# Altium schematic symbol library utilities.SchLib: 7 symbols
Pins are listed as number, name and electrical type; pins without a type are passive.

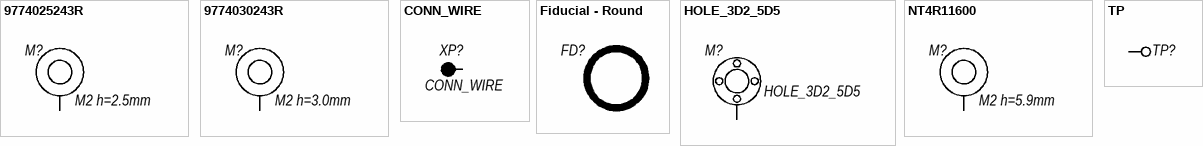
[diagram p0: symbols 9774025243R to TP]

## 9774025243R
designator M?, comment M2 h=2.5mm
9774025243R, Standoffs & Spacers WA-SMSI SMT Steel M2 h=2.5mm; Manufacturer: Wurth Elektronik; ValueBOM: 9774025243R   Wurth Elektronik                            (9774025243R); Value: M2 h=2.5mm; Part Number: 9774025243R; Package: M2 h=2.5mm; BOM1: 9774025243R; BOM2: 9774025243R
footprint 9774025243R (WA-SMSI SMT Steel Spacer with  internal Thread h=2.5 mm)
footprint 9774025243R 3D (WA-SMSI SMT Steel Spacer with  internal Thread h=2.5 mm)
pins: 1

## 9774030243R
designator M?, comment M2 h=3.0mm
9774030243R, Standoffs & Spacers WA-SMSI SMT Steel M2 h=3.0mm; Manufacturer: Wurth Elektronik; ValueBOM: 9774030243R   Wurth Elektronik                            (9774030243R); Value: M2 h=3.0mm; Part Number: 9774030243R; Package: M2 h=3.0mm; BOM1: 9774030243R; BOM2: 9774030243R
footprint 9774030243R (WA-SMSI SMT Steel Spacer with  internal Thread h=3.0 mm)
footprint 9774030243R 3D (WA-SMSI SMT Steel Spacer with  internal Thread h=3.0 mm)
pins: 1

## CONN_WIRE
designator XP?
Single-pin wire connector, 2.0mm hole, 10A; BOM1: 2.0mm hole CONN_WIRE; ValueBOM: CONN_WIRE                               (2.0mm hole CONN_WIRE); Value: CONN_WIRE; Part Number: CONN_WIRE; Package: 2.0mm hole; BOM2: 2.0mm hole CONN_WIRE
footprint WIRE_PAD_2.0_3.0 (Through-hole pad, 2.0mm hole, 3.0mm annular ring)
pins: 1

## Fiducial - Round
designator FD?  (value not drawn)  (no BOM)
Fiducial - Round 1.5mm Top-Bottom; Status: Unreleased; Category: Fiducial
footprint FIDUCIAL ROUND
footprint FIDUCIAL ROUND VER 1
footprint FIDUCIAL ROUND VER 2

## HOLE_3D2_5D5
designator M?
footprint M3
footprint HOLE_M3_3.2_5.5 (M3 normal pad 5.5mm copper ring)
pins: 1

## NT4R11600
designator M?, comment M2 h=5.9mm
Connector Standoff For PCI Express Mini Card SMT Steel M2 h=5.9mm; Part Number: NT4R11600; Manufacturer: Wurth Elektronik; ValueBOM: NT4R11600   Wurth Elektronik                            (NT4R11600); Value: M2 h=5.9mm; Package: M2 h=5.9mm; BOM1: NT4R11600; BOM2: NT4R11600
footprint NT4R1600 (NT4R1600 - Connector Standoff For PCI Express Mini Card from JAE Electronics)
footprint NT4R1600_MAX (NT4R1600 - Connector Standoff For PCI Express Mini Card from JAE Electronics)
pins: 1

## TP
designator TP?  (value not drawn)
Test Point; Fitted: YES; Ordered_By: Subcon; ECCN_US/EU: n/a; Distrib: *; Manuf_1: *; Manuf_Part_1: *; Order_Code: *; Value: TP
footprint TP_SMD_2MM
footprint TP_SMD_1.5MM
footprint TP_SMD_1MM
pins: 1